# EAGLE library part CON4P1R2X (library ads4)
4-connection single row connector with 8 pins Each connection point uses 2 pins
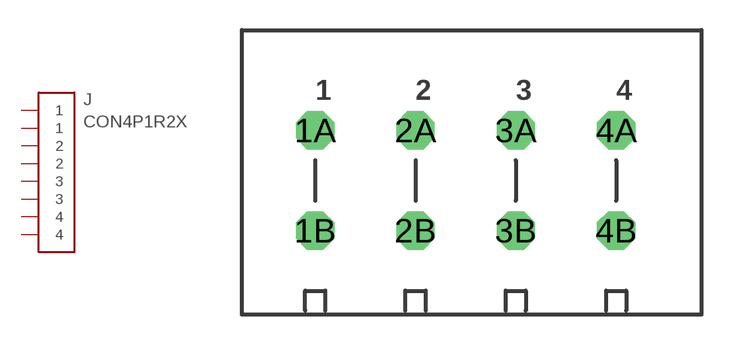
[diagram p73: symbol with the pads of ED3001/4-FD; footprint ED3001/4-FD]

Designator prefix J

## CON4P1R2XED3001/4-FD  [ED3001/4-FD]
1A  1  pas
1B  1  pas
2A  2  pas
2B  2  pas
3A  3  pas
3B  3  pas
4A  4  pas
4B  4  pas

## Footprint ED3001/4-FD (pad centres in mm)
On Shore ED3001/4-FD 5mm terminal block
drill 1.27 octagon: 1A -7.5,0; 1B -7.5,-5; 2A -2.5,0; 2B -2.5,-5; 3A 2.5,0; 3B 2.5,-5; 4A 7.5,0; 4B 7.5,-5